# EAGLE library part SMB_EDGE (library ck)
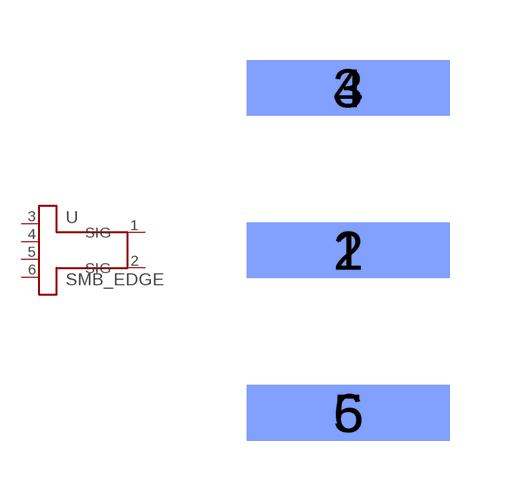
[diagram p8: symbol with the pads of SMB_EDGE; footprint SMB_EDGE]

Designator prefix U

## SMB_EDGE  [SMB_EDGE]
1  SIG
2  SIG
3  GND  pwr
4  GND  pwr
5  GND  pwr
6  GND  pwr

## Footprint SMB_EDGE (pad centres in mm)
smd 5.08 x 1.397: 1 0,0; 3 0,4.064; 5 0,-4.064
smd 5.08 x 1.397 bottom: 2 0,0; 4 0,4.064; 6 0,-4.064